# Altium footprint library PcbLib1.PcbLib: 17 footprints (part 2 of 2)
Each footprint in its own frame and in the unit in brackets; x right, y up, seen from the top. Pads: shape width x height; smd on the part's side, far side on the other; paste and mask are expansions set on the pad; w line width, h text height; cw(c..) or ccw(c..) is an arc to the next point about the centre after c.
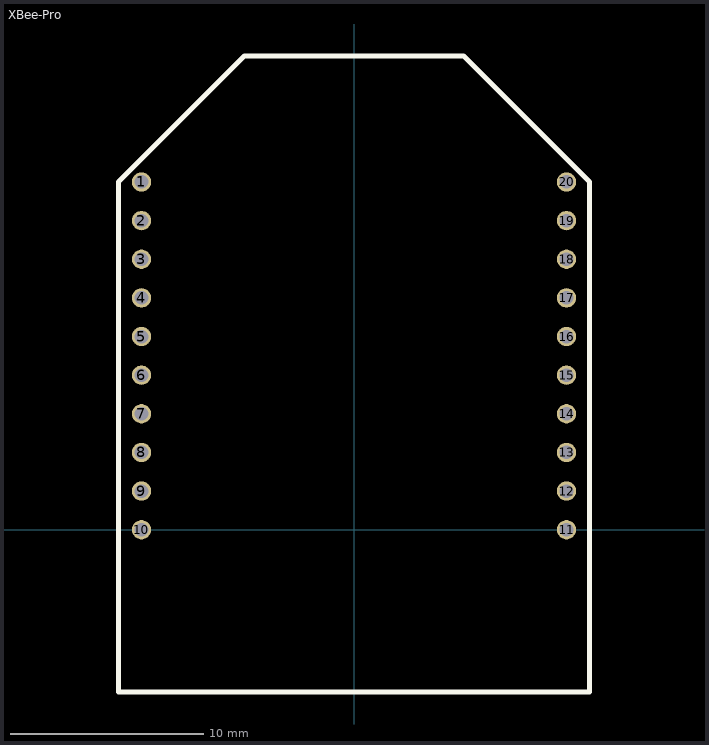
[diagram p1: the footprint, top view; thin cyan lines are the x and y axes]

## XBee-Pro [mm]
pads (20):
  round 1 hole 0.7: 1(-11,18) 2(-11,16) 3(-11,14) 4(-11,12) 5(-11,10) 6(-11,8) 7(-11,6) 8(-11,4) 9(-11,2) 10(-11,0) 11(11,0) 12(11,2) 13(11,4) 14(11,6) 15(11,8) 16(11,10) 17(11,12) 18(11,14) 19(11,16) 20(11,18)
Top Overlay:
  lines w0.254: -12.2,-8.41 12.2,-8.41 12.2,18 5.67,24.53 4.6,24.53 -4.6,24.53 -5.67,24.53 -12.2,18 -12.2,-8.41